# EAGLE library part M24C32-WMN6TP (library M24C32_WMN6TP)
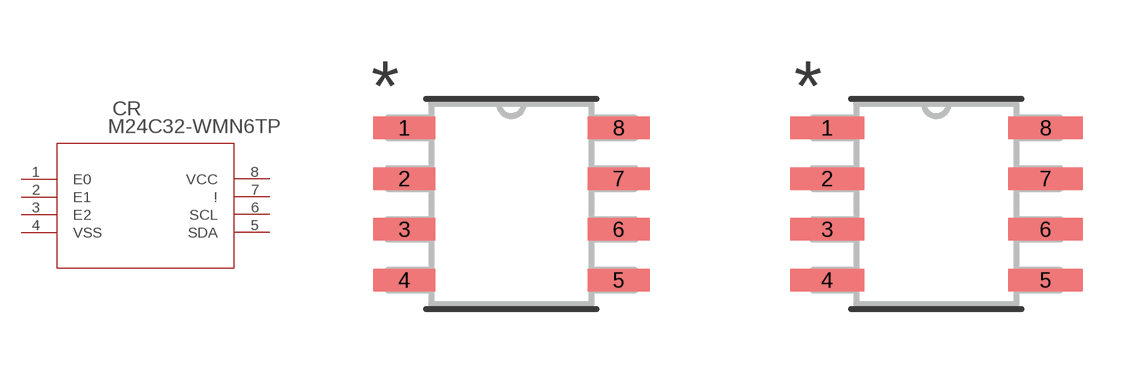
[diagram p0: symbol with the pads of SO-8_STM; footprints SO-8_STM, SO-8_STM-M]

Designator prefix CR

## M24C32-WMN6TPSO-8_STM (Copyright: Copyright (C) 2024 Ultra Librarian. All rights reserved.; Manufacturer_Part_Number: M24C32-WMN6TP; Mfr_Name: STMicroelectronics)  [SO-8_STM]
1  E0  in
2  E1  in
3  E2  in
4  VSS  pwr
5  SDA
6  SCL  in
7  !  in
8  VCC  pwr

## M24C32-WMN6TPSO-8_STM-M (Copyright: Copyright (C) 2024 Ultra Librarian. All rights reserved.; Manufacturer_Part_Number: M24C32-WMN6TP; Mfr_Name: STMicroelectronics)  [SO-8_STM-M]
Pads as for SO-8_STM

## M24C32-WMN6TPSO-8_STM-L (Copyright: Copyright (C) 2024 Ultra Librarian. All rights reserved.; Manufacturer_Part_Number: M24C32-WMN6TP; Mfr_Name: STMicroelectronics)  [SO-8_STM-L]
Pads as for SO-8_STM

## Footprint SO-8_STM (pad centres in mm)
smd 1.549 x 0.559: 1 -2.68,1.905; 2 -2.68,0.635; 3 -2.68,-0.635; 4 -2.68,-1.905; 5 2.68,-1.905; 6 2.68,-0.635; 7 2.68,0.635; 8 2.68,1.905

## Footprint SO-8_STM-M (pad centres in mm)
smd 1.854 x 0.559: 1 -2.731,1.905; 2 -2.731,0.635; 3 -2.731,-0.635; 4 -2.731,-1.905; 5 2.731,-1.905; 6 2.731,-0.635; 7 2.731,0.635; 8 2.731,1.905

## Footprint SO-8_STM-L (pad centres in mm)
smd 1.245 x 0.508: 1 -2.629,1.905; 2 -2.629,0.635; 3 -2.629,-0.635; 4 -2.629,-1.905; 5 2.629,-1.905; 6 2.629,-0.635; 7 2.629,0.635; 8 2.629,1.905